# Altium footprint library HTST-115-01-T-DV.PcbLib: 1 footprints
Each footprint in its own frame and in the unit in brackets; x right, y up, seen from the top. Pads: shape width x height; smd on the part's side, far side on the other; paste and mask are expansions set on the pad; w line width, h text height; cw(c..) or ccw(c..) is an arc to the next point about the centre after c.
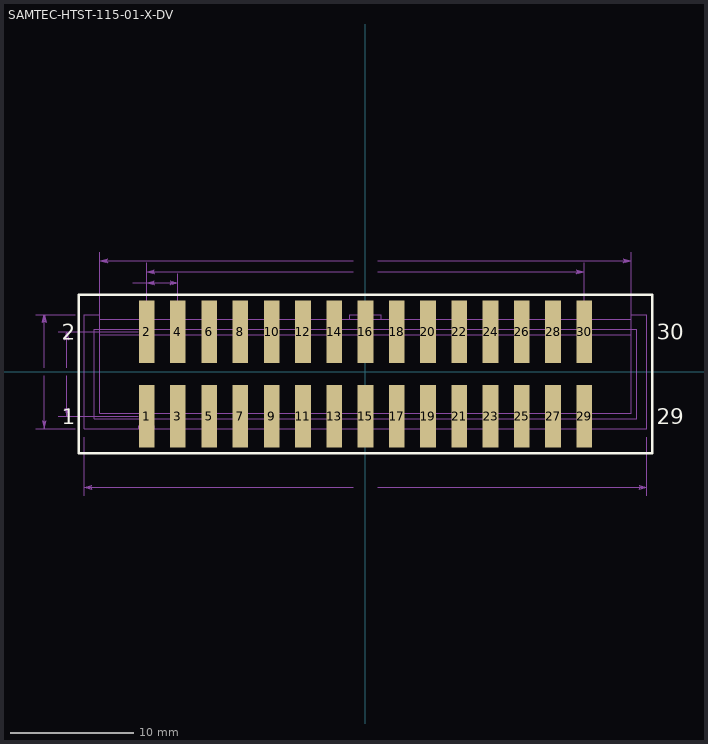
[diagram p0: the footprint, top view; thin cyan lines are the x and y axes]

## SAMTEC-HTST-115-01-X-DV [mm]
pads (30):
  rect 1.27x5.08 smd mask+0.051: 1(-17.78,-3.62) 2(-17.78,3.238) 3(-15.24,-3.62) 4(-15.24,3.238) 5(-12.7,-3.62) 6(-12.7,3.238) 7(-10.16,-3.62) 8(-10.16,3.238) 9(-7.62,-3.62) 10(-7.62,3.238) 11(-5.08,-3.62) 12(-5.08,3.238) 13(-2.54,-3.62) 14(-2.54,3.238) 15(0,-3.62) 16(0,3.238) 17(2.54,-3.62) 18(2.54,3.238) 19(5.08,-3.62) 20(5.08,3.238) 21(7.62,-3.62) 22(7.62,3.238) 23(10.16,-3.62) 24(10.16,3.238) 25(12.7,-3.62) 26(12.7,3.238) 27(15.24,-3.62) 28(15.24,3.238) 29(17.78,-3.62) 30(17.78,3.238)
Top Overlay:
  lines w0.2: -23.31,-6.611 23.31,-6.611 23.31,6.23 -23.31,6.23 -23.31,-6.611
  text "30" at 23.651,2.604 h1.27
  text "29" at 23.651,-4.254 h1.27
  text "2" at -24.68,2.604 h1.27
  text "1" at -24.68,-4.254 h1.27
Mechanical 13:
  drawing of 458 lines, arcs and shapes, not listed
  text "30" at 23.651,2.604 h1.27
  text "29" at 23.651,-4.254 h1.27
  text "43.180" at -0.8,8.877 h0.25
  text "35.560" at -0.8,8.001 h0.25
  text "45.720" at -0.8,-9.512 h0.25
  text "2.540" at -20.409,7.112 h0.25
  text "2" at -24.68,2.604 h1.27
  text "6.858" at -24.917,-0.127 h0.25
  text "1" at -24.68,-4.254 h1.27
  text "9.271" at -26.744,-0.127 h0.25